# Altium footprint library Coffee Machine.PcbLib: 27 footprints (part 2 of 2)
Each footprint in its own frame and in the unit in brackets; x right, y up, seen from the top. Pads: shape width x height; smd on the part's side, far side on the other; paste and mask are expansions set on the pad; w line width, h text height; cw(c..) or ccw(c..) is an arc to the next point about the centre after c.
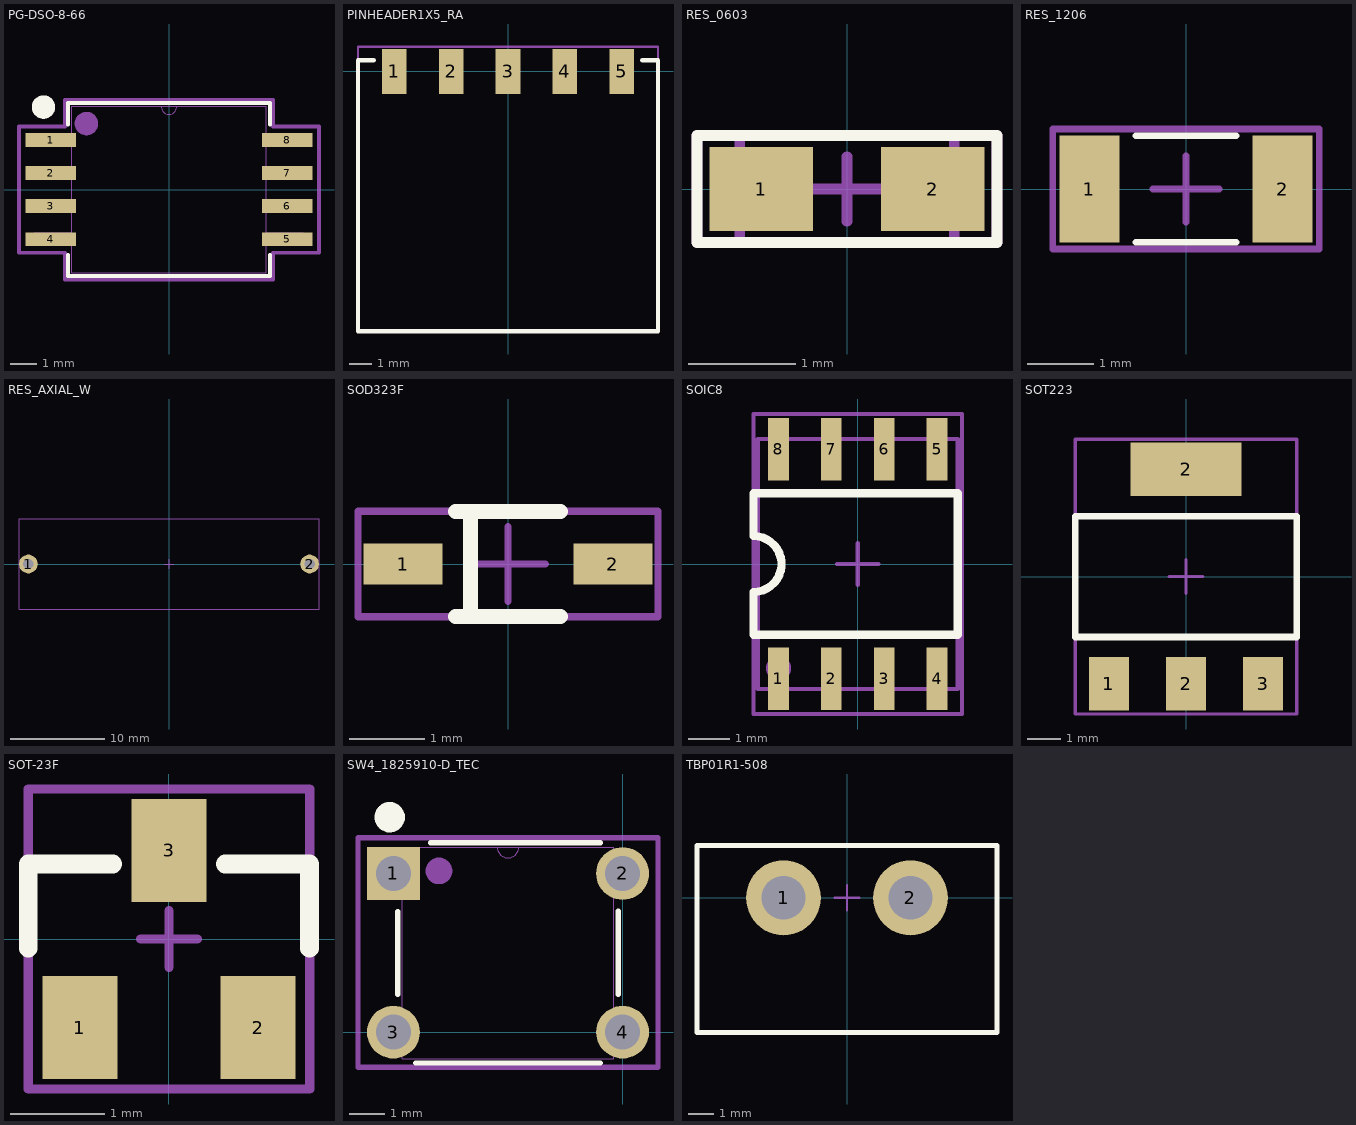
[diagram p1: the footprints below, top view; thin cyan lines are the x and y axes]

## PG-DSO-8-66 [mil]
pads (8):
  rect 76x21 smd paste+0 mask+0: 1(-179,75) 2(-179,25) 3(-179,-25) 4(-179,-75) 5(179,-75) 6(179,-25) 7(179,25) 8(179,75)
Top Overlay:
  circle w19.68: c-190,125 r7.87
  lines w6: -152.5,-98.6 -152.5,-131 152.5,-131 152.5,-98.6 ; -152.5,98.6 -152.5,131 152.5,131 152.5,98.6
Top 3D Body:
  circle w19.68: c-125,100 r7.87
Top Designator:
  text ".Designator" at -73.52,-20.15 h60
Mechanical 13:
  lines w0: -12,126 ccw(c0,126) 12,126
  lines w1: -203,-84.5 -147.5,-84.5 -147.5,-65.5 -203,-65.5 -203,-84.5 ; -203,-34.5 -147.5,-34.5 -147.5,-15.5 -203,-15.5 -203,-34.5 ; -203,15.5 -147.5,15.5 -147.5,34.5 -203,34.5 -203,15.5 ; -203,65.5 -147.5,65.5 -147.5,84.5 -203,84.5 -203,65.5 ; -147.5,-126 -147.5,126 147.5,126 147.5,-126 -147.5,-126 ; 147.5,-84.5 203,-84.5 203,-65.5 147.5,-65.5 147.5,-84.5 ; 147.5,-34.5 203,-34.5 203,-15.5 147.5,-15.5 147.5,-34.5 ; 147.5,15.5 203,15.5 203,34.5 147.5,34.5 147.5,15.5 ; 147.5,65.5 203,65.5 203,84.5 147.5,84.5 147.5,65.5
Mechanical 15:
  lines w6: -227,-95.5 -157.5,-95.5 -157.5,-136 157.5,-136 157.5,-95.5 227,-95.5 227,95.5 157.5,95.5 157.5,136 -157.5,136 -157.5,95.5 -227,95.5 -227,-95.5
3D body "PG-DSO-8-66.step": height 104.09, standoff 0, extent -202.99,-125.98 202.99,125.98

## PINHEADER1X5_RA [mm]
pads (5):
  rect 1.1x2 smd mask+0.05: 1(-5.08,0) 2(-2.54,0) 3(0,0) 4(2.54,0) 5(5.08,0)
Top Overlay:
  lines w0.2: -6,0.5 -6.7,0.5 -6.7,-11.6 6.7,-11.6 6.7,0.5 6,0.5
Top Component Center:
  lines w0.1: -0.5,0 0.5,0 ; 0,-0.5 0,0.5 ; -6.7,-11.6 6.7,-11.6 6.7,1.1 -5.7,1.1 -6.7,1.1 -6.7,-11.6
Top Designator:
  lines w0.1: -6.7,-11.6 6.7,-11.6 6.7,1.1 -5.7,1.1 -6.7,1.1 -6.7,-11.6
  text "'.Designator'" at -4.346,-4.538 h1.52
3D body "SMH-105-02-L-S.stp": height 2.41, standoff -0.01, extent -6.604,-11.509 6.604,0.429

## RES_0603 [mil]
pads (2):
  rect 38x31 smd mask+1.97: 1(-31.5,0) 2(31.5,0)
Top Overlay:
  lines w3.94: -55.12,-19.68 55.12,-19.68 55.12,19.68 -55.12,19.68 -55.12,-19.68
Top 3D Body:
  lines w3.94: -39.37,-19.68 -39.37,19.68 39.37,19.68 39.37,-19.68 -39.37,-19.68
Top Component Center:
  lines w3.94: -11.81,0 11.81,0 ; 0,-11.81 0,11.81 ; -55.12,-19.68 55.12,-19.68 55.12,19.68 -55.12,19.68 -55.12,-19.68
Top Designator:
  lines w3.94: -55.12,-19.68 55.12,-19.68 55.12,19.68 -55.12,19.68 -55.12,-19.68
  text ".Designator" at -39.37,-9.19 h19.68
3D body "0603S1.STEP": height 16.89, standoff -0.83, extent -38.92,-18.87 38.92,19.69

## RES_1206 [mm]
pads (2):
  rect 0.9x1.6 smd mask+0.05: 1(-1.45,0) 2(1.45,0)
Top Overlay:
  lines w0.1: -0.75,-0.8 0.75,-0.8 ; -0.75,0.8 0.75,0.8
Top Component Center:
  lines w0.1: -0.5,0 0.5,0 ; 0,-0.5 0,0.5 ; -2,-0.9 2,-0.9 2,0.9 -2,0.9 -2,-0.9
Top Designator:
  lines w0.1: -2,-0.9 2,-0.9 2,0.9 -2,0.9 -2,-0.9
  text ".Designator" at -1.35,-0.383 h0.8
3D body "res1206r.STEP": height 0.55, standoff 0, extent -1.984,-0.938 1.984,0.938

## RES_AXIAL_W [mm]
pads (2):
  round 2 hole 1.1 mask+0.05: 1(-15,0) 2(15,0)
Top Component Center:
  lines w0.1: -0.5,0 0.5,0 ; 0,-0.5 0,0.5 ; -16,-4.8 16,-4.8 16,4.8 -10.8,4.8 -16,4.8 -16,-4.8
Top Designator:
  lines w0.1: -16,-4.8 16,-4.8 16,4.8 -10.8,4.8 -16,4.8 -16,-4.8
  text "'.Designator'" at -4.946,-0.438 h1.52
3D body: height 9.65, standoff 0, extent -11,-4.825 11,4.825
3D body: height 5.2, standoff 4.4, extent -15.3,-0.398 -6.3,0.398
3D body: height 5, standoff -4, extent -15.397,-0.399 -14.6,0.399
3D body: height 5.2, standoff 4.4, extent 6.3,-0.398 15.3,0.398
3D body: height 5, standoff -4, extent 14.6,-0.399 15.397,0.399

## SOD323F [mm]
pads (2):
  rect 1.05x0.55 smd mask+0.05: 1(-1.4,0) 2(1.4,0)
Top Overlay:
  lines w0.2: -0.7,-0.7 0.7,-0.7 ; -0.7,0.7 0.7,0.7 ; -0.5,-0.6 -0.5,0.7
Top Component Center:
  lines w0.1: -0.5,0 0.5,0 ; 0,-0.5 0,0.5 ; -2,-0.7 2,-0.7 2,0.7 -0.4,0.7 -2,0.7 -2,-0.7
Top Designator:
  lines w0.1: -2,-0.7 -2,0.7 -0.4,0.7 2,0.7 2,-0.7 -2,-0.7
  text "'.Designator'" at -1.5,-0.367 h0.7
3D body "User Library-SOD323F-1.step": height 1, standoff 0, extent -1.25,-0.675 1.25,0.675

## SOIC8 [mm]
pads (8):
  rect 0.5x1.5 smd mask+0.05: 1(-1.905,-2.75) 2(-0.635,-2.75) 3(0.635,-2.75) 4(1.905,-2.75) 5(1.905,2.75) 6(0.635,2.75) 7(-0.635,2.75) 8(-1.905,2.75)
Top Overlay:
  lines w0.2: -2.5,-1.7 -2.5,-0.671 ccw(c-2.5,0) -2.5,0.671 -2.5,1.7 2.4,1.7 2.4,-1.7 -2.5,-1.7
Top 3D Body:
  circle w0.4: c-1.9,-2.5 r0.1
  lines w0.1: -2.4,-3 -2.4,3 2.4,3 2.4,-3 -2.4,-3
Top Component Center:
  lines w0.1: -0.5,0 0.5,0 ; 0,-0.5 0,0.5 ; -2.5,-3.6 -2.5,3.6 2.5,3.6 2.5,-3.6 -0.2,-3.6 -2.5,-3.6
Top Designator:
  lines w0.1: -2.5,-3.6 -2.5,3.6 2.5,3.6 2.5,-3.6 -0.2,-3.6 -2.5,-3.6
  text ".Designator" at 0.238,-1.746 h1.52
3D body "SOIC-8-1.step": height 1.75, standoff 0, extent -2.45,-3 2.45,3

## SOT223 [mm]
pads (4):
  rect 1.2x1.6 smd mask+0.05: 1(-2.3,-3.2) 2(0,-3.2) 3(2.3,-3.2)
  rect 3.3x1.6 smd mask+0.05: 2(0,3.2)
Top Overlay:
  lines w0.2: -3.3,-1.8 -3.3,1.8 -0.8,1.8 3.3,1.8 3.3,-1.8 -3.3,-1.8
Top Component Center:
  lines w0.1: -0.5,0 0.5,0 ; 0,-0.5 0,0.5 ; -3.3,-4.1 3.3,-4.1 3.3,4.1 -3.3,4.1 -3.3,-4.1
Top Designator:
  lines w0.1: -3.3,-4.1 -3.3,4.1 3.3,4.1 3.3,-4.1 -3.3,-4.1
  text "'.Designator'" at -2.046,-0.538 h1.52
3D body "CircuitWorks-SOT-223.step": height 1.65, standoff -0.03, extent -3.25,-3.48 3.25,3.48

## SOT-23F [mm]
pads (3):
  rect 0.8x1.1 smd mask+0.05: 1(-0.95,-0.945) 2(0.95,-0.945) 3(0,0.945)
Top Overlay:
  lines w0.2: -1.5,-0.1 -1.5,0.8 -0.6,0.8 ; 0.6,0.8 1.5,0.8 1.5,-0.1
Top Component Center:
  lines w0.1: -0.3,0 0.3,0 ; 0,-0.3 0,0.3 ; -1.5,-1.6 -1.5,1.6 1.5,1.6 1.5,-1.6 -1.5,-1.6
Top Designator:
  lines w0.1: -1.5,-1.6 -1.5,1.6 1.5,1.6 1.5,-1.6 -1.5,-1.6
  text "'.Designator'" at -1.2,-0.467 h1
3D body "SOT23-3.stp": height 1.2, standoff 0.02, extent -1.5,-1.418 1.5,1.418

## SW4_1825910-D_TEC [mil]
pads (4):
  rect 59x59 / inner round 60 / far side rect 59x59 hole 39 paste-29.5 mask+0: 1(-255.91,177.17)
  round 59 / inner round 60 / far side round 59 hole 39 paste-29.5 mask-29.5: 2(0,177.17) 3(-255.91,0) 4(0,0)
Top Overlay:
  circle w19.68: c-260,240 r7.07
  lines w6: -250.95,42.31 -250.95,134.57 ; -230.8,-34.42 -25.1,-34.42 ; -214.26,211.58 -25.1,211.58 ; -4.95,42.31 -4.95,134.85
Mechanical 13:
  circle w19.68: c-205,180 r5
  lines w0: -139.95,206.58 ccw(c-127.95,206.58) -115.95,206.58
  lines w1: -275.41,-19.5 -275.41,19.5 -245.95,19.5 -245.95,-19.5 -275.41,-19.5 ; -275.41,157.67 -275.41,196.67 -245.95,196.67 -245.95,157.67 -275.41,157.67 ; -245.95,-29.42 -9.95,-29.42 -9.95,206.58 -245.95,206.58 -245.95,-29.42 ; -9.95,-19.5 -9.95,19.5 19.5,19.5 19.5,-19.5 -9.95,-19.5 ; -9.95,157.67 -9.95,196.67 19.5,196.67 19.5,157.67 -9.95,157.67
Mechanical 15:
  lines w6: -295.41,-39 -295.41,217 39.5,217 39.5,-39 -295.41,-39
3D body "FSM8JH--3DModel-STEP-56544.STEP": height 374, standoff -138, extent -281,-28 30,208

## TBP01R1-508 [mm]
pads (2):
  round 3 hole 1.75 mask+0.05: 1(-2.54,0) 2(2.54,0)
Top Overlay:
  lines w0.2: -6,-5.4 6,-5.4 6,-2.2 6,2.1 -6,2.1 -6,-5.4
Top Component Center:
  lines w0.1: -0.5,0 0.5,0 ; 0,-0.5 0,0.5 ; -6,-5.4 6,-5.4 6,2.1 -6,2.1 -6,-5.4
Top Designator:
  lines w0.1: -6,-5.4 6,-5.4 6,2.1 -6,2.1 -6,-5.4
  text "'.Designator'" at -3.746,-1.738 h1.52
3D body "CUI_DEVICES_TBP01R1-508-02BE.step": height 8.55, standoff -3.95, extent -5.88,-10 5.88,2